# Altium footprint library Header.PcbLib: 19 footprints (part 1 of 2)
Each footprint in its own frame and in the unit in brackets; x right, y up, seen from the top. Pads: shape width x height; smd on the part's side, far side on the other; paste and mask are expansions set on the pad; w line width, h text height; cw(c..) or ccw(c..) is an arc to the next point about the centre after c.
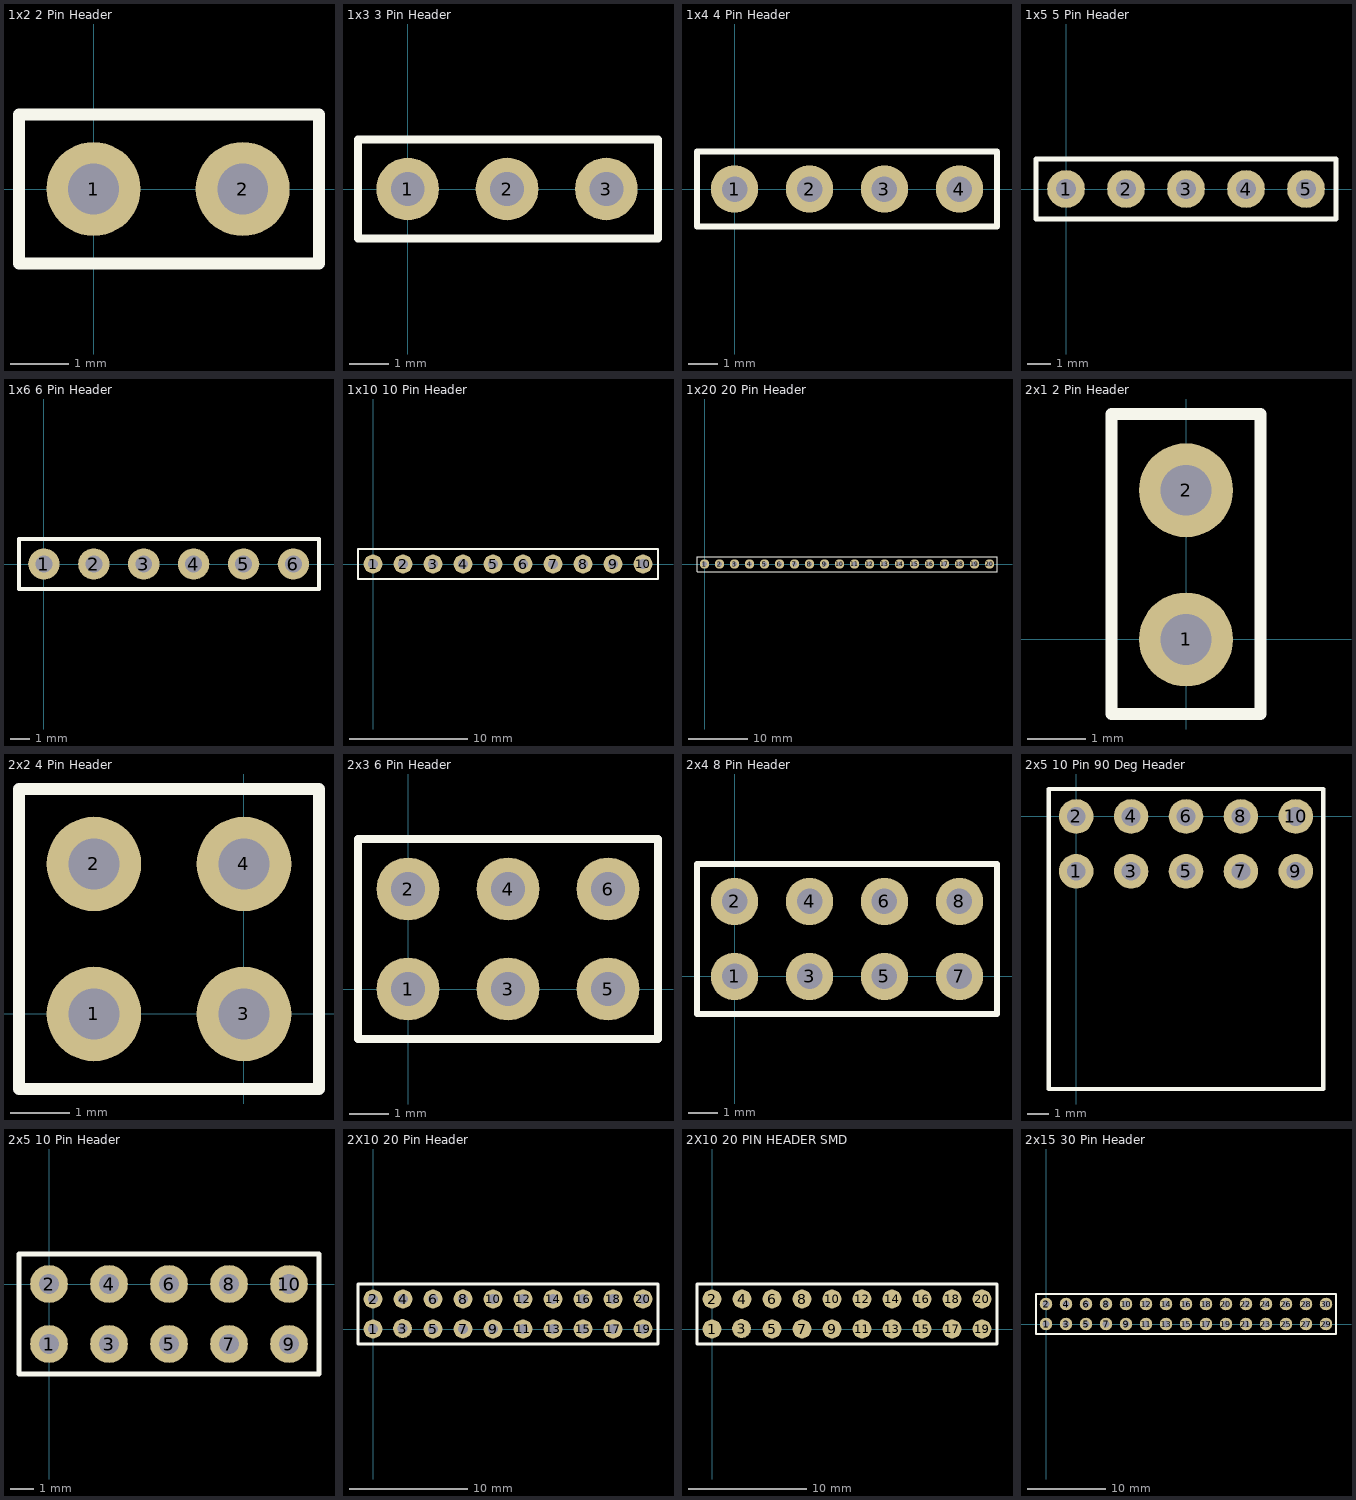
[diagram p0: the footprints below, top view; thin cyan lines are the x and y axes]

## 1x2 2 Pin Header [mil]
pads (2):
  round 63 / inner round 60 / far side round 63 hole 34: 1(0,0) 2(100,0)
Top Overlay:
  lines w8: -50,-50 -50,50 151.18,50 151.18,-50 -50,-50
3D body: height 335.79, standoff -144.21, extent -49.99,-57.48 150.01,57.49

## 1x3 3 Pin Header [mil]
pads (3):
  round 63 / inner round 60 / far side round 63 hole 34: 1(0,0) 2(100,0) 3(200,0)
Top Overlay:
  lines w8: -50,-50 251.97,-50 251.97,50 -50,50 -50,-50
3D body: height 335.85, standoff -144.88, extent -51.57,-59.85 248.43,55.12

## 1x4 4 Pin Header [mil]
pads (4):
  round 63 / inner round 60 / far side round 63 hole 34: 1(0,0) 2(100,0) 3(200,0) 4(300,0)
Top Overlay:
  lines w8: -50,-50 350,-50 350,50 -50,50 -50,-50
3D body: height 336.22, standoff -118.11, extent -49.99,-49.01 350.01,49.02

## 1x5 5 Pin Header [mil]
pads (5):
  round 63 / inner round 60 / far side round 63 hole 34: 1(0,0) 2(100,0) 3(200,0) 4(300,0) 5(400,0)
Top Overlay:
  lines w8: -50,-50 -50,50 450,50 450,-50 -50,-50
3D body: height 347.32, standoff -144.88, extent -50.2,-59.45 449.8,55.51

## 1x6 6 Pin Header [mil]
pads (6):
  round 63 / inner round 60 / far side round 63 hole 34: 1(0,0) 2(100,0) 3(200,0) 4(300,0) 5(400,0) 6(500,0)
Top Overlay:
  lines w8: -50,-50 551.18,-50 551.18,50 -50,50 -50,-50
3D body: height 336.22, standoff -118.11, extent -50,-49.01 550,49.02

## 1x10 10 Pin Header [mil]
pads (10):
  round 63 / inner round 60 / far side round 63 hole 34: 1(0,0) 2(100,0) 3(200,0) 4(300,0) 5(400,0) 6(500,0) 7(600,0) 8(700,0) 9(800,0) 10(900,0)
Top Overlay:
  lines w8: -50,-50 -50,50 950,50 950,-50 -50,-50

## 1x20 20 Pin Header [mil]
pads (20):
  round 63 / inner round 60 / far side round 63 hole 34: 1(0,0) 2(100,0) 3(200,0) 4(300,0) 5(400,0) 6(500,0) 7(600,0) 8(700,0) 9(800,0) 10(900,0) 11(1000,0) 12(1100,0) 13(1200,0) 14(1300,0) 15(1400,0) 16(1500,0) 17(1600,0) 18(1700,0) 19(1800,0) 20(1900,0)
Top Overlay:
  lines w8: -50,-50 -50,50 1950,50 1950,-50 -50,-50

## 2x1 2 Pin Header [mil]
pads (2):
  round 63 / inner round 60 / far side round 63 hole 34: 1(0,0) 2(0,100)
Top Overlay:
  lines w8: -50,-50 -50,151.18 50,151.18 50,-50 -50,-50
3D body: height 335.79, standoff -144.21, extent -57.49,-49.99 57.48,150.01

## 2x2 4 Pin Header [mil]
pads (4):
  round 63 / inner round 60 / far side round 63 hole 34: 1(-100,0) 2(-100,100) 3(0,0) 4(0,100)
Top Overlay:
  lines w7.87: -150,-50 -150,150
  lines w8: -150,-50 50,-50 50,150 -150,150

## 2x3 6 Pin Header [mil]
pads (6):
  round 63 / inner round 60 / far side round 63 hole 34: 1(0,0) 2(0,100) 3(100,0) 4(100,100) 5(200,0) 6(200,100)
Top Overlay:
  lines w7.87: -50,-50 -50,150
  lines w8: -50,-50 250,-50 250,150 -50,150

## 2x4 8 Pin Header [mil]
pads (8):
  round 63 / inner round 60 / far side round 63 hole 34: 1(0,0) 2(0,100) 3(100,0) 4(100,100) 5(200,0) 6(200,100) 7(300,0) 8(300,100)
Top Overlay:
  lines w7.87: -50,-50 -50,150
  lines w8: -50,-50 350,-50 350,150 -50,150

## 2x5 10 Pin 90 Deg Header [mil]
pads (10):
  round 63 / inner round 60 / far side round 63 hole 34: 1(0,-100) 2(0,0) 3(100,-100) 4(100,0) 5(200,-100) 6(200,0) 7(300,-100) 8(300,0) 9(400,-100) 10(400,0)
Top Overlay:
  lines w7.87: -50,-496.06 -50,50
  lines w8: -50,-496.06 450,-496.06 450,50 -50,50
3D body: height 118.11, standoff -196.85, extent -43.31,-499.21 456.69,7.87

## 2x5 10 Pin Header [mil]
pads (10):
  round 63 / inner round 60 / far side round 63 hole 34: 1(0,-100) 2(0,0) 3(100,-100) 4(100,0) 5(200,-100) 6(200,0) 7(300,-100) 8(300,0) 9(400,-100) 10(400,0)
Top Overlay:
  lines w7.87: -50,-150 -50,50
  lines w8: -50,-150 450,-150 450,50 -50,50
3D body: height 334.65, standoff -118.11, extent -49.99,-154.99 450.01,45.01

## 2X10 20 Pin Header [mil]
pads (20):
  round 63 / inner round 60 / far side round 63 hole 34: 1(0,0) 2(0,100) 3(98.43,1.57) 4(100,100) 5(200,0) 6(200,100) 7(300,0) 8(300,100) 9(400,0) 10(400,100) 11(500,0) 12(500,100) 13(600,0) 14(600,100) 15(700,0) 16(700,100) 17(800,0) 18(800,100) 19(900,0) 20(900,100)
Top Overlay:
  lines w10: -50,-50 950,-50 950,150 -50,150 -50,-50

## 2X10 20 PIN HEADER SMD [mil]
pads (20):
  round 63 smd: 1(0,0) 2(0,100) 3(98.43,1.57) 4(100,100) 5(200,0) 6(200,100) 7(300,0) 8(300,100) 9(400,0) 10(400,100) 11(500,0) 12(500,100) 13(600,0) 14(600,100) 15(700,0) 16(700,100) 17(800,0) 18(800,100) 19(900,0) 20(900,100)
Top Overlay:
  lines w10: -50,-50 -50,150 950,150 950,-50 -50,-50

## 2x15 30 Pin Header [mil]
pads (30):
  round 63 / inner round 60 / far side round 63 hole 34: 1(0,0) 2(0,100) 3(100,0) 4(100,100) 5(200,0) 6(200,100) 7(300,0) 8(300,100) 9(400,0) 10(400,100) 11(500,0) 12(500,100) 13(600,0) 14(600,100) 15(700,0) 16(700,100) 17(800,0) 18(800,100) 19(900,0) 20(900,100) 21(1000,0) 22(1000,100) 23(1100,0) 24(1100,100) 25(1200,0) 26(1200,100) 27(1300,0) 28(1300,100) 29(1400,0) 30(1400,100)
Top Overlay:
  lines w8: -50,-50 -50,50 -50,150 1450,150 1450,-50 -50,-50